# Altium schematic symbol library int_lock.SCHLIB: 64 symbols
Pins are listed as number, name and electrical type; pins without a type are passive.

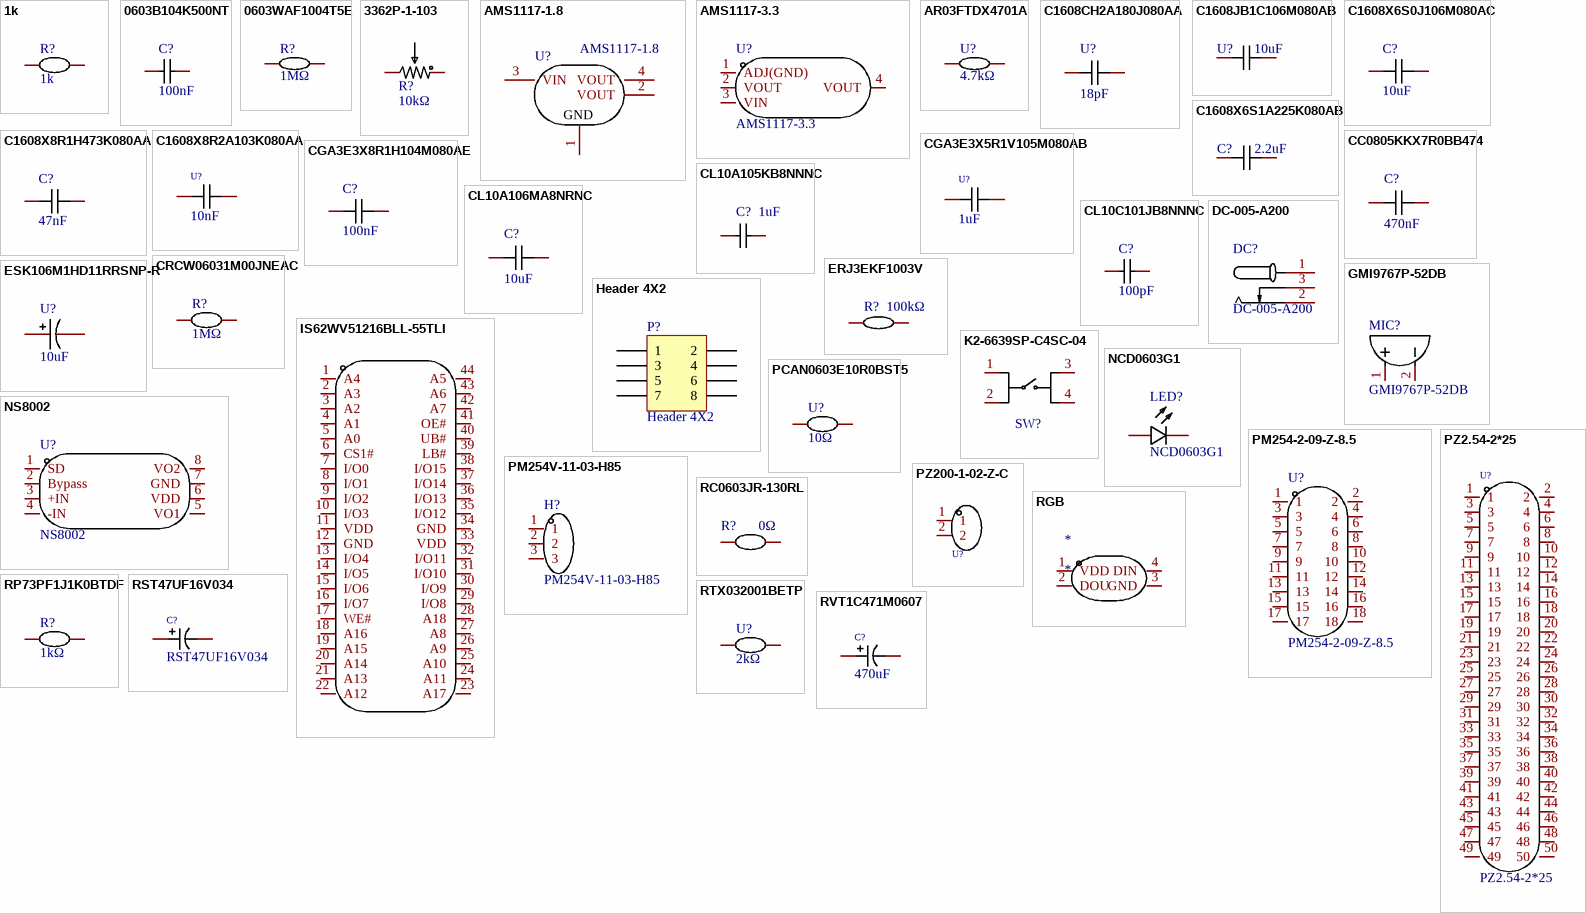
[diagram p0: symbols 1k to RVT1C471M0607]

## 1k
designator R?
Add into BOM: yes; Symbol: 1K; Device: 1k; LCSC Part Name: 1k; Supplier Part: C9900012840; Manufacturer Part: 1k; Supplier Footprint: R0603; JLCPCB Part Class: 扩展库; Supplier: LCSC; Convert to PCB: yes; Name: 1k
footprint R0603
3D model R0603
pins: 1, 2

## 0603B104K500NT
designator C?, comment 100nF
容值:100nF;精度:±10%;额定电压:50V;材质(温度系数):X7R;; Manufacturer: FH(风华); Symbol: 0603B104K500NT; Add into BOM: yes; Tolerance: ±10%; Voltage Rated: 50V; Temperature Coefficient: X7R; Name: 100nF; Device: 0603B104K500NT; LCSC Part Name: 100nF ±10% 50V; Supplier Part: C30926; Manufacturer Part: 0603B104K500NT; Supplier Footprint: 0603; JLCPCB Part Class: 扩展库; Datasheet: https://atta.szlcsc.com/upload/public/pdf/source/20170923/C30926_1506149436298988724.pdf; Supplier: LCSC; Convert to PCB: yes; Value: 100nF
footprint C0603
3D model C0603_L1.6-W0.8-H0.8
pins: 1, 2

## 0603WAF1004T5E
designator R?, comment 1MΩ
电阻类型:厚膜电阻;阻值:1MΩ;精度:±1%;功率:100mW;温度系数:±100ppm/℃;; Manufacturer: UNI-ROYAL(厚声); Symbol: 0603WAF1004T5E; Add into BOM: yes; Tolerance: ±1%; Power(Watts): 100mW; Overload Voltage (Max): 75V; Name: 1MΩ; Device: 0603WAF1004T5E; LCSC Part Name: 厚膜电阻 1MΩ ±1% 100mW; Supplier Part: C22935; Manufacturer Part: 0603WAF1004T5E; Supplier Footprint: 0603; JLCPCB Part Class: 基础库; Datasheet: https://atta.szlcsc.com/upload/public/pdf/source/20200306/C422600_1E6D84923E4A46A82E41ADD87F860B5C.pdf; Supplier: LCSC; Convert to PCB: yes; Type: 厚膜电阻; Value: 1MΩ; Temperature Coefficient: ±100ppm/℃; Operating Temperature Range: -55℃~+155℃
footprint R0603
3D model R0603
pins: 1, 2

## 3362P-1-103
designator R?, comment 10kΩ
阻值:10kΩ;精度:±10%;; Manufacturer: BOCHEN(博晨); Symbol: 3362P-1-103_C118956; Device: 3362P-1-103; Add into BOM: yes; Tolerance: ±10%; Name: 10kΩ; LCSC Part Name: 10kΩ ±10%; Supplier Part: C118956; Manufacturer Part: 3362P-1-103; Supplier Footprint: 插件; JLCPCB Part Class: 扩展库; Datasheet: https://atta.szlcsc.com/upload/public/pdf/source/20171114/C118956_15106326650691117445.pdf; Supplier: LCSC; Convert to PCB: yes; Value: 10kΩ
footprint RES-ADJ-TH_3362P
3D model 3362P
pins: 1, 2, 3

## AMS1117-1.8
designator U?
输出类型:固定;输出极性:正;最大输入电压:18V;输出电压:1.8V;输出电流:1A;电源纹波抑制比(PSRR):-;; Manufacturer: PUOLOP(迪浦); Symbol: AMS1117-1.8_C351432; Add into BOM: yes; Output Type: 固定; Output Polarity: 正; Number of Outputs: 1; Maximum Input Voltage: 18V; Output Voltage: 1.8V; Dropout Voltage: 1.4V@(1A); Output Current: 1A; Device: AMS1117-1.8; LCSC Part Name: 输入18V 输出1.8V 1A; Supplier Part: C351432; Manufacturer Part: AMS1117-1.8; Supplier Footprint: SOT-223-4; JLCPCB Part Class: 扩展库; Supplier: LCSC; Convert to PCB: yes; Power Supply Rejection Ratio (PSRR): -; Name: AMS1117-1.8
footprint SOT-223-4_L6.5-W3.5-P2.30-LS7.0-BR
3D model SOT-223-4P_L6.5-W3.5-H1.6-LS7.0-P2.30
pins: 1 GND, 2 VOUT, 3 VIN, 4 VOUT

## AMS1117-3.3
designator U?
输出类型:固定;输出极性:正;输出通道数:1;最大输入电压:18V;输出电压:3.3V;压差:1.3V@(1A);输出电流:1A;电源纹波抑制比(PSRR):60dB@(120Hz);工作温度:±150℃@(Tj);; Manufacturer: YONGYUTAI(永裕泰); Symbol: AMS1117-3.3_C2891839; Add into BOM: yes; Output Type: 固定; Output Polarity: 正; Number of Outputs: 1; Maximum Input Voltage: 18V; Output Voltage: 3.3V; Name: AMS1117-3.3; Device: AMS1117-3.3; LCSC Part Name: 正 Vin=18V Vout=3.3V 1A 60dB@(120Hz); Supplier Part: C2891839; Manufacturer Part: AMS1117-3.3; Supplier Footprint: SOT-223-3; JLCPCB Part Class: 扩展库; Datasheet: https://atta.szlcsc.com/upload/public/pdf/source/20210901/A75ADDE6A17DEE0002F2A58A8D1F3634.pdf; Supplier: LCSC; Convert to PCB: yes; Dropout Voltage: 1.3V@(1A); Output Current: 1A; Power Supply Rejection Ratio (PSRR): 60dB@(120Hz); Operating Temperature: ±150℃@(Tj)
footprint SOT-223-3_L6.5-W3.4-P2.30-LS7.0-BR
3D model SOT-223-4P_L6.5-W3.5-H1.6-LS7.0-P2.30
pins: 1 ADJ(GND), 2 VOUT, 3 VIN, 4 VOUT

## AR03FTDX4701A
designator U?, comment 4.7kΩ
电阻类型:薄膜电阻;阻值:4.7kΩ;精度:±1%;功率:100mW;; Manufacturer: Viking(光颉); Symbol: AR03FTDX4701A; Add into BOM: yes; Tolerance: ±1%; Power(Watts): 100mW; Temperature Coefficient: ±50ppm/℃; Overload Voltage (Max): 75V; Name: 4.7kΩ; Device: AR03FTDX4701A; LCSC Part Name: 4.7kΩ ±1% 100mW; Supplier Part: C2924150; Manufacturer Part: AR03FTDX4701A; Supplier Footprint: 0603; JLCPCB Part Class: 扩展库; Datasheet: https://atta.szlcsc.com/upload/public/pdf/source/20211123/7AFDB03DAF68AA91648A852AAE26A3AB.pdf; Supplier: LCSC; Convert to PCB: yes; Type: 薄膜电阻; Value: 4.7kΩ; Operating Temperature Range: -55℃~+155℃
footprint R0603
3D model R0603
pins: 1, 2

## C1608CH2A180J080AA
designator U?, comment 18pF
容值:18pF;精度:±5%;额定电压:100V;材质(温度系数):CH;; Manufacturer: TDK; Symbol: C1608CH2A180J080AA; Add into BOM: yes; Tolerance: ±5%; Voltage Rated: 100V; Temperature Coefficient: CH; Name: 18pF; Device: C1608CH2A180J080AA; LCSC Part Name: 18pF ±5% 100V; Supplier Part: C3847790; Manufacturer Part: C1608CH2A180J080AA; Supplier Footprint: -; JLCPCB Part Class: 扩展库; Supplier: LCSC; Convert to PCB: yes; Value: 18pF
footprint C0603
3D model C0603_L1.6-W0.8-H0.8
pins: 1, 2

## C1608JB1C106M080AB
designator U?, comment 10uF
容值:10uF;精度:±20%;额定电压:16V;材质(温度系数):JB;; Manufacturer: TDK; Symbol: C1608JB1C106M080AB; Add into BOM: yes; Tolerance: ±20%; Voltage Rated: 16V; Temperature Coefficient: JB; Name: 10uF; Device: C1608JB1C106M080AB; LCSC Part Name: 10uF ±20% 16V; Supplier Part: C3866185; Manufacturer Part: C1608JB1C106M080AB; Supplier Footprint: 0603; Supplier: LCSC; Convert to PCB: yes; Value: 10uF
footprint C0603
3D model C0603_L1.6-W0.8-H0.8
pins: 1, 2

## C1608X6S0J106M080AC
designator C?, comment 10uF
容值:10uF;精度:±20%;额定电压:6.3V;材质(温度系数):X6S;; Manufacturer: TDK; Symbol: C1608X6S0J106M080AC_C314596-1; Device: C1608X6S0J106M080AC; Add into BOM: yes; Tolerance: ±20%; Voltage Rated: 6.3V; Temperature Coefficient: X6S; Name: 10uF; LCSC Part Name: 10uF ±20% 6.3V; Supplier Part: C314596; Manufacturer Part: C1608X6S0J106M080AC; Supplier Footprint: 0603; Datasheet: https://atta.szlcsc.com/upload/public/pdf/source/20221212/519F8C46C56E78A46759B3245CB4AD37.pdf; Supplier: LCSC; Convert to PCB: yes; Value: 10uF
footprint C0603
3D model C0603_L1.6-W0.8-H0.8
pins: 1, 2

## C1608X6S1A225K080AB
designator C?, comment 2.2uF
容值:2.2uF;精度:±10%;额定电压:10V;材质(温度系数):X6S;; Manufacturer: TDK; Symbol: C1608X6S1A225K080AB; Add into BOM: yes; Tolerance: ±10%; Voltage Rated: 10V; Temperature Coefficient: X6S; Device: C1608X6S1A225K080AB; LCSC Part Name: 2.2uF ±10% 10V; Supplier Part: C3888161; Manufacturer Part: C1608X6S1A225K080AB; Supplier Footprint: 0603; Supplier: LCSC; Convert to PCB: yes; Value: 2.2uF; Name: 2.2uF
footprint C0603
3D model C0603_L1.6-W0.8-H0.8
pins: 1, 2

## C1608X8R1H473K080AA
designator C?, comment 47nF
容值:47nF;额定电压:50V;材质(温度系数):X8R;; Manufacturer: TDK; Symbol: C1608X8R1H473K080AA; Add into BOM: yes; Voltage Rated: 50V; Temperature Coefficient: X8R; Name: 47nF; Device: C1608X8R1H473K080AA; LCSC Part Name: 47nF 50V; Supplier Part: C3890694; Manufacturer Part: C1608X8R1H473K080AA; Supplier Footprint: 0603; Supplier: LCSC; Convert to PCB: yes; Value: 47nF
footprint C0603
3D model C0603_L1.6-W0.8-H0.8
pins: 1, 2

## C1608X8R2A103K080AA
designator U?, comment 10nF
容值:10nF;精度:±10%;额定电压:100V;材质(温度系数):X8R;; Manufacturer: TDK; Symbol: C1608X8R2A103K080AA; Add into BOM: yes; Tolerance: ±10%; Voltage Rated: 100V; Temperature Coefficient: X8R; Name: 10nF; Device: C1608X8R2A103K080AA; LCSC Part Name: 10nF ±10% 100V; Supplier Part: C3865495; Manufacturer Part: C1608X8R2A103K080AA; Supplier Footprint: 0603; Supplier: LCSC; Convert to PCB: yes; Value: 10nF
footprint C0603
3D model C0603_L1.6-W0.8-H0.8
pins: 1, 2

## CC0805KKX7R0BB474
designator C?, comment 470nF
容值:470nF;精度:±10%;额定电压:100V;材质(温度系数):X7R;; Manufacturer: YAGEO(国巨); Symbol: GRM21BR60E107ME15L; Device: CC0805KKX7R0BB474; Add into BOM: yes; Tolerance: ±10%; Voltage Rated: 100V; Temperature Coefficient: X7R; LCSC Part Name: 470nF ±10% 100V; Supplier Part: C596323; Manufacturer Part: CC0805KKX7R0BB474; Supplier Footprint: 0805; JLCPCB Part Class: Extended Part; Datasheet: https://atta.szlcsc.com/upload/public/pdf/source/20200609/C596323_82E7DD20666BC3809E26A1262184D295.pdf; Supplier: LCSC; Convert to PCB: yes; Value: 470nF; Name: 470nF
footprint C0805
3D model C0805_L2.0-W1.3-H1.3
pins: 1, 2

## CGA3E3X5R1V105M080AB
designator U?, comment 1uF
容值:1uF;精度:±20%;额定电压:35V;材质(温度系数):X5R;; Manufacturer: TDK; Symbol: CGA3E3X5R1V105M080AB; Add into BOM: yes; Tolerance: ±20%; Voltage Rated: 35V; Temperature Coefficient: X5R; Name: 1uF; Device: CGA3E3X5R1V105M080AB; LCSC Part Name: 1uF ±20% 35V; Supplier Part: C3910162; Manufacturer Part: CGA3E3X5R1V105M080AB; Supplier Footprint: 0603; Supplier: LCSC; Convert to PCB: yes; Value: 1uF
footprint C0603
3D model C0603_L1.6-W0.8-H0.8
pins: 1, 2

## CGA3E3X8R1H104M080AE
designator C?, comment 100nF
容值:100nF;精度:±20%;额定电压:50V;材质(温度系数):X8R;; Manufacturer: TDK; Symbol: CGA3E3X8R1H104M080AE; Add into BOM: yes; Tolerance: ±20%; Voltage Rated: 50V; Temperature Coefficient: X8R; Device: CGA3E3X8R1H104M080AE; LCSC Part Name: 100nF ±20% 50V; Supplier Part: C3855738; Manufacturer Part: CGA3E3X8R1H104M080AE; Supplier Footprint: 0603; Supplier: LCSC; Convert to PCB: yes; Value: 100nF; Name: 100nF
footprint C0603
3D model C0603_L1.6-W0.8-H0.8
pins: 1, 2

## CL10A105KB8NNNC
designator C?, comment 1uF
容值:1uF;精度:±10%;额定电压:50V;材质(温度系数):X5R;; Manufacturer: SAMSUNG(三星); Symbol: CL10A105KB8NNNC; Add into BOM: yes; Tolerance: ±10%; Voltage Rated: 50V; Temperature Coefficient: X5R; Name: 1uF; Device: CL10A105KB8NNNC; LCSC Part Name: 1uF ±10% 50V; Supplier Part: C15849; Manufacturer Part: CL10A105KB8NNNC; Supplier Footprint: 0603; JLCPCB Part Class: 基础库; Datasheet: https://atta.szlcsc.com/upload/public/pdf/source/20160103/1457707679084.pdf; Supplier: LCSC; Convert to PCB: yes; Value: 1uF
footprint C0603
3D model C0603_L1.6-W0.8-H0.8
pins: 1, 2

## CL10A106MA8NRNC
designator C?, comment 10uF
容值:10uF;精度:±20%;额定电压:25V;材质(温度系数):X5R;; Manufacturer: SAMSUNG(三星); Symbol: CL10A106MA8NRNC; Add into BOM: yes; Tolerance: ±20%; Voltage Rated: 25V; Temperature Coefficient: X5R; Name: 10uF; Device: CL10A106MA8NRNC; LCSC Part Name: 10uF ±20% 25V; Supplier Part: C96446; Manufacturer Part: CL10A106MA8NRNC; Supplier Footprint: 0603; JLCPCB Part Class: 基础库; Datasheet: https://atta.szlcsc.com/upload/public/pdf/source/20170325/1490427913016.pdf; Supplier: LCSC; Convert to PCB: yes; Value: 10uF
footprint C0603
3D model C0603_L1.6-W0.8-H0.8
pins: 1, 2

## CL10C101JB8NNNC
designator C?, comment 100pF
容值:100pF;精度:±5%;额定电压:50V;材质(温度系数):C0G;; Manufacturer: SAMSUNG(三星); Symbol: CL10C101JB8NNNC; Add into BOM: yes; Tolerance: ±5%; Voltage Rated: 50V; Temperature Coefficient: C0G; Name: 100pF; Device: CL10C101JB8NNNC; LCSC Part Name: 100pF ±5% 50V; Supplier Part: C14858; Manufacturer Part: CL10C101JB8NNNC; Supplier Footprint: 0603; JLCPCB Part Class: 基础库; Datasheet: https://atta.szlcsc.com/upload/public/pdf/source/20160103/1457707672333.pdf; Supplier: LCSC; Convert to PCB: yes; Value: 100pF
footprint C0603
3D model C0603_L1.6-W0.8-H0.8
pins: 1, 2

## CRCW06031M00JNEAC
designator R?, comment 1MΩ
电阻类型:厚膜电阻;阻值:1MΩ;精度:±5%;功率:100mW;; Manufacturer: VISHAY(威世); Symbol: CRCW06031M00JNEAC; Add into BOM: yes; Tolerance: ±5%; Power(Watts): 100mW; Temperature Coefficient: ±200ppm/℃; Overload Voltage (Max): 75V; Name: 1MΩ; Device: CRCW06031M00JNEAC; LCSC Part Name: 1MΩ ±5% 100mW; Supplier Part: C1511824; Manufacturer Part: CRCW06031M00JNEAC; Supplier Footprint: 0603; JLCPCB Part Class: 扩展库; Datasheet: https://atta.szlcsc.com/upload/public/pdf/source/20210501/3A8C68602BA6317D7357138250FC3EA2.pdf; Supplier: LCSC; Convert to PCB: yes; Type: 厚膜电阻; Value: 1MΩ; Operating Temperature Range: -55℃~+155℃
footprint R0603
3D model R0603
pins: 1, 2

## DC-005-A200
designator DC?
DC-005 外径6.4 内芯2.0 3A电流 DC电源插座; Manufacturer: XUNPU(讯普); Add into BOM: yes; Name: DC-005-A200; Symbol: DC-005-A200; Device: DC-005-A200; LCSC Part Name: DC-005-A200; Supplier Part: C720557; Manufacturer Part: DC-005-A200; Supplier Footprint: 14×9.0×11.0mm; JLCPCB Part Class: 扩展库; Datasheet: https://atta.szlcsc.com/upload/public/pdf/source/20200812/C720557_2286DFCD6C75B71AF905731F627ABF3A.pdf; Supplier: LCSC; Convert to PCB: yes
footprint DC-IN-TH_DC-005-A200
3D model DC-IN-TH_DC-005
pins: 1, 2, 3

## ERJ3EKF1003V
designator R?, comment 100kΩ
电阻类型:厚膜电阻;阻值:100kΩ;精度:±1%;功率:100mW;温度系数:±100ppm/℃;; Manufacturer: PANASONIC(松下); Symbol: ERJ3EKF1003V; Add into BOM: yes; Tolerance: ±1%; Power(Watts): 100mW; Name: 100kΩ; Device: ERJ3EKF1003V; LCSC Part Name: 厚膜电阻 100kΩ ±1% 100mW; Supplier Part: C189597; Manufacturer Part: ERJ3EKF1003V; Supplier Footprint: 0603; JLCPCB Part Class: 扩展库; Datasheet: https://atta.szlcsc.com/upload/public/pdf/source/20180524/C193239_FFEA89BB7F9859C8C42240F47AD03C60.pdf; Supplier: LCSC; Convert to PCB: yes; Type: 厚膜电阻; Value: 100kΩ; Temperature Coefficient: ±100ppm/℃; Overload Voltage (Max): -; Operating Temperature Range: -55℃~+155℃
footprint R0603
3D model R0603
pins: 1, 2

## ESK106M1HD11RRSNP-R
designator U?, comment 10uF
容值:10uF;精度:±20%;额定电压:50V;纹波电流:-;等效串联电阻:-;; Manufacturer: MAN YUE(万裕科技); Symbol: ESK106M1HD11RRSNP-R; Add into BOM: yes; Tolerance: ±20%; Rated Voltage: 50V; φD: 5mm; L: 11mm; Name: 10uF; Device: ESK106M1HD11RRSNP-R; LCSC Part Name: 10uF ±20% 50V; Supplier Part: C3015490; Manufacturer Part: ESK106M1HD11RRSNP-R; Supplier Footprint: 插件; JLCPCB Part Class: 扩展库; Datasheet: https://atta.szlcsc.com/upload/public/pdf/source/20190724/C406799_CDF11B2185D3B9C175922EABD678815E.pdf; Supplier: LCSC; Convert to PCB: yes; Value: 10uF; Lead Spacing: -; Ripple Current: -; Equivalent Series Resistance(ESR): -; Lifetime @ Temp: -; Operating Temperature: -
footprint CAP-TH_BD6.3-P2.50-D0.5-FD
3D model CAP-TH_BD6.3-P2.50-D0.5-FD
pins: 1, 2

## GMI9767P-52DB
designator MIC?
Manufacturer: INGHAi(赢海); Add into BOM: yes; Name: GMI9767P-52DB; Symbol: GMI9767P-52DB; Device: GMI9767P-52DB; LCSC Part Name: 全指向φ9.7*6.7mm 1.5V-10V 灵敏度-52db 低阻抗 针脚; Supplier Part: C234023; Manufacturer Part: GMI9767P-52DB; Supplier Footprint: 插件; JLCPCB Part Class: 扩展库; Datasheet: https://atta.szlcsc.com/upload/public/pdf/source/20200113/C234023_1CE1EA91B70FB2D654251C10F12F6FAC.pdf; Supplier: LCSC; Convert to PCB: yes
footprint MIC-TH_BD9.7-P2.54-D0.8-L-FD
3D model MIC-TH_BD9.7-P2.54-D0.8-L-FD
pins: 1, 2

## Header 4X2
designator P?
Header, 4-Pin, Dual row; LatestRevisionDate: 17-Jul-2002; LatestRevisionNote: Re-released for DXP Platform.; Publisher: Altium Limited
footprint HDR2X4 (Connector; Header; 4x2 Position)
signal-integrity model Connector
pins: 1, 2, 3, 4, 5, 6, 7, 8

## IS62WV51216BLL-55TLI
designator U??  (value not drawn)
Manufacturer: ISSI(美国芯成); Add into BOM: yes; Symbol: IS62WV51216BLL-55TLI; Device: IS62WV51216BLL-55TLI; Supplier: LCSC; Manufacturer Part: IS62WV51216BLL-55TLI; Supplier Part: C11315; JLCPCB Part Class: Extended Part; LCSC Part Name: IS62WV51216BLL-55TLI; Supplier Footprint: TSOPII-44; Datasheet: https://atta.szlcsc.com/upload/public/pdf/source/20130225/1457706593006.pdf; Convert to PCB: yes
footprint TSOP-44_L18.4-W10.2-P0.80-LS11.8-BL
pins: 1 A4, 2 A3, 3 A2, 4 A1, 5 A0, 6 CS1#, 7 I/O0, 8 I/O1, 9 I/O2, 10 I/O3, 11 VDD, 12 GND, 13 I/O4, 14 I/O5, 15 I/O6, 16 I/O7, 17 WE#, 18 A16, 19 A15, 20 A14, 21 A13, 22 A12, 23 A17, 24 A11, 25 A10, 26 A9, 27 A8, 28 A18, 29 I/O8, 30 I/O9, 31 I/O10, 32 I/O11, 33 VDD, 34 GND, 35 I/O12, 36 I/O13, 37 I/O14, 38 I/O15, 39 LB#, 40 UB#, 41 OE#, 42 A7, 43 A6, 44 A5

## K2-6639SP-C4SC-04
designator SW?  (value not drawn)
触点电流:50mA;额定电压(DC):12V;绝缘电阻:100MΩ;安装方式:立贴;作用力:250gf@±30gf;机械寿命:1000000;工作温度:-25℃~+85℃;开关长度:6mm;开关宽度:6mm;开关高度:5mm;; Manufacturer: 韩国韩荣; Symbol: K2-6639SP-C4SC-04_C879344; Add into BOM: yes; Contact Current: 50mA; Voltage Rating (DC): 12V; Insulation Resistance: 100MΩ; Mounting Sytle: 立贴; Switch Length: 6mm; Switch Height: 5mm; Name: K2-6639SP-C4SC-04; Device: K2-6639SP-C4SC-04; LCSC Part Name: K2-6639SP-C4SC-04; Supplier Part: C879344; Manufacturer Part: K2-6639SP-C4SC-04; Supplier Footprint: SMD; JLCPCB Part Class: 扩展库; Datasheet: https://atta.szlcsc.com/upload/public/pdf/source/20200721/C707344_FB3B602593668C8FE1542A3F64DDEE0A.pdf; Supplier: LCSC; Convert to PCB: yes; Operating Force: 250gf@±30gf; Mechanical Life: 1000000; Operating Temperature: -25℃~+85℃; Switch Width: 6mm
footprint KEY-SMD_4P-L6.0-W6.0-P3.90-LS10.0
3D model KEY-SMD_4P-L6.0-W6.0-H9.0-LS10.0-P3.9
pins: 1, 2, 3, 4

## NCD0603G1
designator LED?
发光颜色:翠绿色;功率:72mW;透镜颜色:无色透明;主波长:515nm~530nm;发光强度:330mcd~900mcd;发光角度:130°;工作温度:-30℃~+85℃;; Manufacturer: 国星光电; Symbol: FC-D1608UGK-520D10; Add into BOM: yes; Emitted Color: 翠绿色; Forward Voltage (VF): 2.6V~3.6V; Forward Current: 10mA; Power Dissipation: 72mW; Lens Color: 无色透明; Viewing Angle: 130°; Name: NCD0603G1; Device: NCD0603G1; LCSC Part Name: 翠绿 0603翠绿  正贴; Supplier Part: C84267; Manufacturer Part: NCD0603G1; Supplier Footprint: 0603; JLCPCB Part Class: 扩展库; Datasheet: https://atta.szlcsc.com/upload/public/pdf/source/20200820/C84267_04BA7703640BAC111D09F5EFB971FBF3.pdf; Supplier: LCSC; Convert to PCB: yes; Dominant Wavelength: 515nm~530nm; Luminous Intensity: 330mcd~900mcd; Operating Temperature: -30℃~+85℃
footprint LED0603-RD
3D model LED0603-RD
pins: 1 K, 2 A

## NS8002
designator U?
音频功率放大器的类型:Class AB;输出类型:-;输出功率:1.8W x 1 @ 4Ω;工作电压:3V ~ 5.25V;; Manufacturer: Nsiway(纳芯威); Add into BOM: yes; Name: NS8002; Symbol: NS8002; Device: NS8002; LCSC Part Name: NS8002; Supplier Part: C189960; Manufacturer Part: NS8002; Supplier Footprint: SOP-8-EP-150mil; JLCPCB Part Class: 扩展库; Datasheet: https://atta.szlcsc.com/upload/public/pdf/source/20190704/C189960_42E000A0092060C3B2B5B31BC13BD104.pdf; Supplier: LCSC; Convert to PCB: yes; Type: Class AB; Output Type: -; Max Output Power x Channels @ Load: 1.8W x 1 @ 4Ω; Voltage - Supply: 3V ~ 5.25V; Features: 关机
footprint SOP-8_L4.9-W3.9-P1.27-LS6.0-BL
3D model SOP-8_L4.9-W3.9-P1.27-LS6.0-BL-1
pins: 1 SD, 2 Bypass, 3 +IN, 4 -IN, 5 VO1, 6 VDD, 7 GND, 8 VO2

## PCAN0603E10R0BST5
designator U?, comment 10Ω
电阻类型:薄膜电阻;阻值:10Ω;精度:±0.1%;功率:500mW;; Manufacturer: VISHAY(威世); Symbol: PCAN0603E10R0BST5; Add into BOM: yes; Tolerance: ±0.1%; Power(Watts): 500mW; Temperature Coefficient: ±25ppm/℃; Overload Voltage (Max): 75V; Name: 10Ω; Device: PCAN0603E10R0BST5; LCSC Part Name: 10Ω ±0.1% 500mW; Supplier Part: C2091258; Manufacturer Part: PCAN0603E10R0BST5; Supplier Footprint: 0603; JLCPCB Part Class: 扩展库; Datasheet: https://atta.szlcsc.com/upload/public/pdf/source/20210606/BB102AFC1F3ADA31AF003395293DA88D.pdf; Supplier: LCSC; Convert to PCB: yes; Type: 薄膜电阻; Value: 10Ω; Operating Temperature Range: -55℃~+155℃
footprint R0603
3D model R0603
pins: 1, 2

## PM254-2-09-Z-8.5
designator U?
排数:双排;总孔位数:18P;间距:2.54mm;插孔结构:2x9P;行距:2.54mm;安装类型:直插;圆孔/方孔:方孔;额定电流:3A;额定电压:-;插孔方向:顶部;塑高:8.5mm;工作温度范围:-40℃~+105℃;; Manufacturer: HCTL(华灿天禄); Add into BOM: yes; Number of Holes: 18P; Pitch: 2.54mm; Holes Structure: 2x9P; Circular Hole / Square Hole: 方孔; Current Rating (Max): 3A; Holes Direction: 顶部; Name: PM254-2-09-Z-8.5; Symbol: PM254-2-09-Z-8.5; Device: PM254-2-09-Z-8.5; LCSC Part Name: 间距:2.54mm 2x9P 直插; Supplier Part: C2897410; Manufacturer Part: PM254-2-09-Z-8.5; Supplier Footprint: 插件,P=2.54mm; JLCPCB Part Class: 扩展库; Datasheet: https://atta.szlcsc.com/upload/public/pdf/source/20230609/3D36CA2C1BFC9FD1C3F709AD9DFEB9C2.pdf; Supplier: LCSC; Convert to PCB: yes; Number of Rows: 双排; Row Spacing: 2.54mm; Mounting Type: 直插; Voltage Rating (Max): -; Insulation Height: 8.5mm; Operating Temperature Range: -40℃~+105℃
footprint HDR-TH_18P-P2.54-V-F-R2-C9-S2.54
3D model HDR-TH_18P-P2.54-F-LI-2X9P
pins: 1, 2, 3, 4, 5, 6, 7, 8, 9, 10, 11, 12, 13, 14, 15, 16, 17, 18

## PM254V-11-03-H85
designator H?
排数:单排;总孔位数:3P;间距:2.54mm;插孔结构:1x3P;行距:-;安装类型:直插;塑高:-;触头材质:黄铜;触头镀层:-;; Manufacturer: XFCN(兴飞); Add into BOM: yes; Number of Holes: 3P; Pitch: 2.54mm; Holes Structure: 1x3P; Name: PM254V-11-03-H85; Symbol: PM254V-11-03-H85; Device: PM254V-11-03-H85; LCSC Part Name: 间距:2.54mm 1x3P 直插; Supplier Part: C541850; Manufacturer Part: PM254V-11-03-H85; Supplier Footprint: 插件,P=2.54mm; JLCPCB Part Class: 扩展库; Datasheet: https://atta.szlcsc.com/upload/public/pdf/source/20200518/C541849_85853D71FC67C51915A806977A588FDA.pdf; Supplier: LCSC; Convert to PCB: yes; Number of Rows: 单排; Row Spacing: -; Mounting Type: 直插; Insulation Height: -; Contact Material: 黄铜; Contact Plating: -
footprint HDR-TH_3P-P2.54-V-F
3D model HDR2.54-F-LI-1X3P
pins: 1, 2, 3

## PZ2.54-2*25
designator U?
Manufacturer: ZHOURI(洲日); Add into BOM: yes; Name: PZ2.54-2*25; Symbol: PZ2.54-2*25; Device: PZ2.54-2*25; LCSC Part Name: 排针 2*25 2.54 11.6MM 镀金; Supplier Part: C5360897; Manufacturer Part: PZ2.54-2*25; Supplier Footprint: DIP; JLCPCB Part Class: 扩展库; Supplier: LCSC; Convert to PCB: yes
footprint HDR-TH_50P-P2.54-V-M-R2-C25-S2.54
3D model HDR-TH_50P-P2.54-M-LI-2X25P
pins: 1, 2, 3, 4, 5, 6, 7, 8, 9, 10, 11, 12, 13, 14, 15, 16, 17, 18, 19, 20, 21, 22, 23, 24, 25, 26, 27, 28, 29, 30, 31, 32, 33, 34, 35, 36, 37, 38, 39, 40, 41, 42, 43, 44, 45, 46, 47, 48, 49, 50

## PZ200-1-02-Z-C
designator U?  (value not drawn)
间距：2.0mm 总PIN位数：2 排数1行距：2.0mm 安类型：直插 圆针：圆针 额定电流：3A 配合针长度：3.7mm 塑高：3mm 端接针长度：3.7mm 触头材质：黄铜 触头镀层：金 工作温度范围：-40℃~+105℃ 焊接温度(最大值)：260℃ 颜色：黑; Manufacturer: HCTL(华灿天禄); Add into BOM: yes; Name: PZ200-1-02-Z-C; Symbol: PZ200-1-02-Z-C; Device: PZ200-1-02-Z-C; LCSC Part Name: PZ200-1-02-Z-C; Supplier Part: C5159793; Manufacturer Part: PZ200-1-02-Z-C; Supplier Footprint: 插件,P=2mm; JLCPCB Part Class: 扩展库; Datasheet: https://atta.szlcsc.com/upload/public/pdf/source/20230609/CA4823EE069156B840028BF818EA617F.pdf; Supplier: LCSC; Convert to PCB: yes
footprint HDR-TH_2P-P2.00-V-M-3
3D model HDR-TH_2P-P2.00-V-M-3
pins: 1, 2

## RC0603JR-130RL
designator R?, comment 0Ω
电阻类型:厚膜电阻;阻值:0Ω;精度:-;功率:100mW;; Manufacturer: YAGEO(国巨); Symbol: RC0603JR-130RL; Add into BOM: yes; Power(Watts): 100mW; Overload Voltage (Max): 75V; Name: 0Ω; Device: RC0603JR-130RL; LCSC Part Name: 0Ω 100mW; Supplier Part: C1512169; Manufacturer Part: RC0603JR-130RL; Supplier Footprint: 0603; JLCPCB Part Class: 扩展库; Datasheet: https://atta.szlcsc.com/upload/public/pdf/source/20210615/C1512169_F749B83676031E9170C7C93785487C19.pdf; Supplier: LCSC; Convert to PCB: yes; Type: 厚膜电阻; Value: 0Ω; Tolerance: -; Temperature Coefficient: -; Operating Temperature Range: -55℃~+155℃
footprint R0603
3D model R0603
pins: 1, 2

## RGB
designator *
pins: 1 VDD, 2 DOU, 3 GND, 4 DIN

## RP73PF1J1K0BTDF
designator R?, comment 1kΩ
电阻类型:薄膜电阻;阻值:1kΩ;功率:166.667mW;温度系数:±25ppm/℃;精度:±0.1%;; Manufacturer: TE Connectivity(泰科电子); Symbol: RP73PF1J1K0BTDF; Add into BOM: yes; Overload Voltage (Max): 100V; Tolerance: ±0.1%; Name: 1kΩ; Device: RP73PF1J1K0BTDF; LCSC Part Name: 薄膜电阻 1kΩ ±0.1% 166.667mW; Supplier Part: C2075496; Manufacturer Part: RP73PF1J1K0BTDF; Supplier Footprint: 0603; JLCPCB Part Class: 扩展库; Datasheet: https://atta.szlcsc.com/upload/public/pdf/source/20210630/6E04CB751A2D662D7173C35DE81A345D.pdf; Supplier: LCSC; Convert to PCB: yes; Type: 薄膜电阻; Value: 1kΩ; Power(Watts): 166.667mW; Temperature Coefficient: ±25ppm/℃; Operating Temperature Range: -55℃~+155℃
footprint R0603
3D model R0603
pins: 1, 2

## RST47UF16V034
designator C?
RST宽温通用品 105℃2000小时 等同RVT VT XT系列贴片电解电容; Manufacturer: KNSCHA(科尼盛); Add into BOM: yes; Capacitance: 47uF; Name: RST47UF16V034; Symbol: RST47UF16V034; Device: RST47UF16V034; LCSC Part Name: 贴片型铝电解电容 47uF ±20% 16V; Supplier Part: C4747957; Manufacturer Part: RST47UF16V034; Supplier Footprint: SMD,5x5.4mm; JLCPCB Part Class: 扩展库; Supplier: LCSC; Convert to PCB: yes
footprint CAP-SMD_BD5.0-L5.3-W5.3-LS6.0-FD
3D model CAP-SMD_BD5.0-L5.3-W5.3-LS6.0-FD
pins: 1, 2

## RTX032001BETP
designator U?, comment 2kΩ
阻值:2kΩ;精度:±0.1%;; Manufacturer: RALEC(旺诠); Symbol: RTX032001BETP; Add into BOM: yes; Tolerance: ±0.1%; Temperature Coefficient: ±50ppm/℃; Name: 2kΩ; Device: RTX032001BETP; LCSC Part Name: 2kΩ ±0.1%; Supplier Part: C5141181; Manufacturer Part: RTX032001BETP; Supplier Footprint: 0603; Datasheet: https://atta.szlcsc.com/upload/public/pdf/source/20220822/046AFDAF81466BFF443BF7BC902F6DB1.pdf; Supplier: LCSC; Convert to PCB: yes; Value: 2kΩ
footprint R0603
3D model R0603
pins: 1, 2

## RVT1C471M0607
designator C?, comment 470uF
容值:470uF;精度:±20%;额定电压:16V;电容体直径:6.3mm;电容体长度:7.7mm;工作寿命:2000hrs@105℃;工作温度:-55℃~+105℃;; Manufacturer: ROQANG(容强); Symbol: RVT1C471M0607; Add into BOM: yes; Tolerance: ±20%; Rated Voltage: 16V; φD: 6.3mm; L: 7.7mm; Name: 470uF; Device: RVT1C471M0607; LCSC Part Name: 470uF ±20% 16V; Supplier Part: C2977552; Manufacturer Part: RVT1C471M0607; Supplier Footprint: SMD,6.3x7.7mm; JLCPCB Part Class: 扩展库; Supplier: LCSC; Convert to PCB: yes; Value: 470uF; Lifetime @ Temp: 2000hrs@105℃; Operating Temperature: -55℃~+105℃
footprint CAP-SMD_BD6.3-L6.6-W6.6-LS7.6-RD
3D model CAP-SMD_BD6.3-L6.6-W6.6-LS7.6-RD
pins: 1, 2

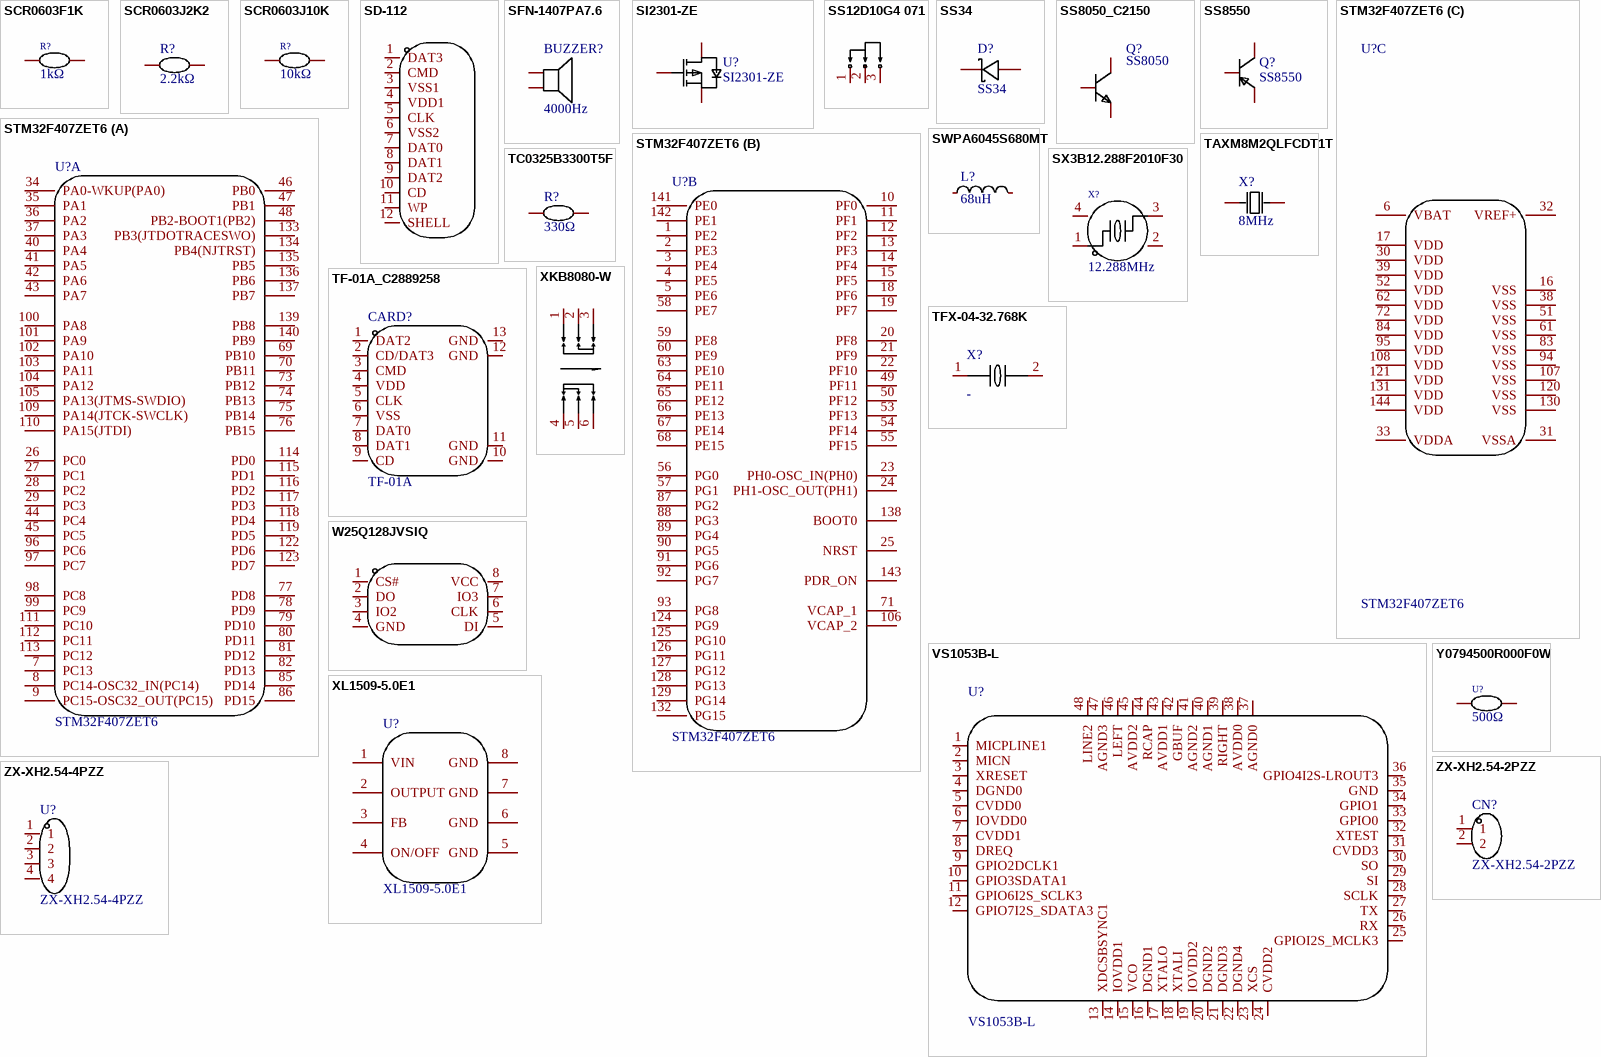
[diagram p1: symbols SCR0603F1K to ZX-XH2.54-4PZZ]

## SCR0603F1K
designator R?, comment 1kΩ
阻值:1kΩ;精度:±1%;; Manufacturer: VO(翔胜); Symbol: SCR0603F1K; Add into BOM: yes; Tolerance: ±1%; Name: 1kΩ; Device: SCR0603F1K; LCSC Part Name: 1kΩ ±1%; Supplier Part: C3016283; Manufacturer Part: SCR0603F1K; Supplier Footprint: 0603; JLCPCB Part Class: 扩展库; Datasheet: https://atta.szlcsc.com/upload/public/pdf/source/20220513/247AF9639BA21CF93567DC289CCC6A22.pdf; Supplier: LCSC; Convert to PCB: yes; Value: 1kΩ
footprint R0603
3D model R0603
pins: 1, 2

## SCR0603J2K2
designator R?, comment 2.2kΩ
阻值:2.2kΩ;精度:±5%;; Manufacturer: VO(翔胜); Symbol: SCR0603J2K2; Add into BOM: yes; Tolerance: ±5%; Name: 2.2kΩ; Device: SCR0603J2K2; LCSC Part Name: 2.2kΩ ±5%; Supplier Part: C3017730; Manufacturer Part: SCR0603J2K2; Supplier Footprint: 0603; JLCPCB Part Class: 扩展库; Datasheet: https://atta.szlcsc.com/upload/public/pdf/source/20220513/247AF9639BA21CF93567DC289CCC6A22.pdf; Supplier: LCSC; Convert to PCB: yes; Value: 2.2kΩ
footprint R0603
3D model R0603
pins: 1, 2

## SCR0603J10K
designator R?, comment 10kΩ
阻值:10kΩ;精度:±5%;; Manufacturer: VO(翔胜); Symbol: SCR0603J10K; Add into BOM: yes; Tolerance: ±5%; Name: 10kΩ; Device: SCR0603J10K; LCSC Part Name: 10kΩ ±5%; Supplier Part: C3017715; Manufacturer Part: SCR0603J10K; Supplier Footprint: 0603; JLCPCB Part Class: 扩展库; Datasheet: https://atta.szlcsc.com/upload/public/pdf/source/20220513/247AF9639BA21CF93567DC289CCC6A22.pdf; Supplier: LCSC; Convert to PCB: yes; Value: 10kΩ
footprint R0603
3D model R0603
pins: 1, 2

## SD-112
designator SD??  (value not drawn)
Manufacturer: HANBO(汉博); Add into BOM: yes; Card Connection Mode: 拔插式; Card Type: 标准SD卡; Connector Type: 卡座; Maximum Body Height: 2.75mm; Symbol: SD-112; Device: SD-112; Supplier: LCSC; Supplier Part: C961673; Manufacturer Part: SD-112; JLCPCB Part Class: Extended Part; LCSC Part Name: 拔插式 标准SD卡 卡座; Supplier Footprint: SMD; Datasheet: https://atta.szlcsc.com/upload/public/pdf/source/20221111/3DA5FA45280C889584A9D758FC9BB3ED.pdf; Convert to PCB: yes; Contact Plating: 镀金; Operating Temperature Range: -25℃~+90℃
footprint SD-SMD_SD-112
pins: 1 DAT3, 2 CMD, 3 VSS1, 4 VDD1, 5 CLK, 6 VSS2, 7 DAT0, 8 DAT1, 9 DAT2, 10 CD, 11 WP, 12 SHELL

## SFN-1407PA7.6
designator BUZZER?, comment 4000Hz
驱动方式:无源(外部驱动);构造类型:压电式;额定电压:-;工作电压:-;消耗电流:-;频率:4000Hz;声压(SPL):85dB@5V,10cm;直径(φD):14mm;长度:-;宽度:-;高度:7.5mm;工作温度:-;; Manufacturer: S&amp;S(海旭); Symbol: SFN-1407PA7.6; Add into BOM: yes; Technology Type: 压电式; Name: 4000Hz; Device: SFN-1407PA7.6; LCSC Part Name: 压电无源蜂鸣器; Supplier Part: C360603; Manufacturer Part: SFN-1407PA7.6; Supplier Footprint: 插件,P=7.6mm; JLCPCB Part Class: 扩展库; Datasheet: https://atta.szlcsc.com/upload/public/pdf/source/20190422/C360603_0050A9658ADA60D80C9948846F925782.pdf; Supplier: LCSC; Convert to PCB: yes; Oscillator Circuit: 无源(外部驱动); Rated Voltage: -; Operating Voltage: -; Current Consumption: -; Value: 4000Hz; Sound Pressure Level (SPL): 85dB@5V,10cm; Diameter (φD): 14mm; Length: -; Width: -; Height: 7.5mm; Operating Temperature: -
footprint BUZ-TH_BD14.0-P7.60-D0.7-FD
3D model BUZ-TH_D14.0-H1.0-P7.6
pins: 1, 2

## SI2301-ZE
designator U?
漏源电压(Vdss):20V;连续漏极电流(Id):2.3A;功率(Pd):700mW;类型:P沟道;导通电阻(RDS(on)@Vgs,Id):126mΩ@4.5V;; Manufacturer: HXY MOSFET(华轩阳电子); Add into BOM: yes; Gate Threshold Voltage (Vgs(th)@Id): 1V@250uA; Drain Source Voltage (Vdss): 20V; Continuous Drain Current (Id): 2.3A; Power Dissipation (Pd): 700mW; Input Capacitance (Ciss@Vds): 285pF; Name: SI2301-ZE; Symbol: SI2301-ZE; Device: SI2301-ZE; LCSC Part Name: P沟道 耐压:20V 电流:2.3A; Supplier Part: C5261052; Manufacturer Part: SI2301-ZE; Supplier Footprint: SOT-23; JLCPCB Part Class: 扩展库; Datasheet: https://atta.szlcsc.com/upload/public/pdf/source/20230515/2FF2907841563ED329594D3237822724.pdf; Supplier: LCSC; Convert to PCB: yes; Type: P沟道; Drain Source On Resistance (RDS(on)@Vgs,Id): 126mΩ@4.5V
footprint SOT-23-3_L2.9-W1.3-P1.90-LS2.4-BR
3D model SOT-23-3P_L2.9-W1.3-H1.0-LS2.4-P0.95
pins: 1 G, 2 S, 3 D

## SS12D10G4 071
designator SW??  (value not drawn)
Manufacturer: SHOU HAN(首韩); Add into BOM: yes; Circuit: 单刀双掷; Pin Style: PC引脚; Switch Length: 12.7mm; Switch Width: 6.7mm; Switch Height: 6.4mm; Current Rating (DC): 2A; Voltage Rating (DC): 125V; Mechanical Life: 3千次; Symbol: SS12D10G4 071; Device: SS12D10G4 071; Supplier: LCSC; Supplier Part: C2887259; Manufacturer Part: SS12D10G4 071; JLCPCB Part Class: Extended Part; LCSC Part Name: SS12D10G4 071; Supplier Footprint: 插件; Datasheet: https://atta.szlcsc.com/upload/public/pdf/source/20210820/80D1704BBF3FCEE0435FCAA54C61E0A3.pdf; Convert to PCB: yes; Actuator Style: -; Mounting Style: 立插; Actuator Color: -; Current Rating (AC): -; Voltage Rating (AC): -; Operating Temperature: -16℃~+60℃
footprint SW-TH_SHOU-HAN_SS12D10G4
pins: 1, 2, 3

## SS34
designator D?
Symbol: SS34_C9900023345; Add into BOM: yes; Name: SS34; Device: SS34; LCSC Part Name: SS34; Supplier Part: C9900023345; Manufacturer Part: SS34; Supplier Footprint: SMA,DO-214AC; JLCPCB Part Class: 扩展库; Datasheet: 2022-07-04/534833A/5ff3008f79ea4c6ab22b1f3463cee262/20210714020425519.pdf; Supplier: LCSC; Convert to PCB: yes
footprint SMA_L4.3-W2.6-LS5.0-RD
3D model SMA_L4.3-W2.6-LS5.0-RD
pins: 1 K, 2 A

## SS8050_C2150
designator Q?, comment SS8050
直流电流增益(hFE@Ic,Vce):200@100mA,1V;功率(Pd):300mW;集射极击穿电压(Vceo):25V;集电极电流(Ic):1.5A;晶体管类型:NPN;; Manufacturer: CJ(江苏长电/长晶); Symbol: SS8050_C2150; Add into BOM: yes; Power Dissipation (Pd): 300mW; Transition Frequency (fT): 100MHz; Collector-Emitter Breakdown Voltage (Vceo): 25V; Collector Current (Ic): 1.5A; Collector Cut-Off Current (Icbo): 100nA; Collector-Emitter Saturation Voltage (VCE(sat)@Ic,Ib): 500mV@800mA,80mA; Transistor Type: NPN; Name: SS8050; Device: SS8050_C2150; LCSC Part Name: 耐压:25V 电流:1.5A NPN Y1 200-350; Supplier Part: C2150; Manufacturer Part: SS8050; Supplier Footprint: SOT-23; JLCPCB Part Class: 基础库; Datasheet: https://atta.szlcsc.com/upload/public/pdf/source/20230322/AEE86F4B043774EFF80CAEA14A37D9E9.pdf; Supplier: LCSC; Convert to PCB: yes; DC Current Gain (hFE@Ic,Vce): 200@100mA,1V; Operating Temperature: +150℃@(Tj)
footprint SOT-23-3_L2.9-W1.3-P1.90-LS2.4-BR
3D model SOT-23-3P_L2.9-W1.3-H1.0-LS2.4-P0.95
pins: 1 B, 2 E, 3 C

## SS8550
designator Q?
Manufacturer: Doeshare(德芯); Symbol: SS8550_C2931718; Add into BOM: yes; Name: SS8550; Device: SS8550; LCSC Part Name: PNP -25V -1.5A 120-400 SOT-23; Supplier Part: C2931718; Manufacturer Part: SS8550; Supplier Footprint: SOT-23; JLCPCB Part Class: 扩展库; Datasheet: https://atta.szlcsc.com/upload/public/pdf/source/20220104/E36293975455CDB0A899354BE4C8E85F.pdf; Supplier: LCSC; Convert to PCB: yes
footprint SOT-23-3_L2.9-W1.3-P1.90-LS2.4-BR
3D model SOT-23-3P_L2.9-W1.3-H1.0-LS2.4-P0.95
pins: 1 B, 2 E, 3 C

## STM32F407ZET6
designator U?
CPU内核:ARM Cortex-M4;CPU最大主频:168MHz;工作电压范围:1.8V~3.6V;程序存储容量:512KB;程序存储器类型:FLASH;RAM总容量:192KB;GPIO端口数量:114;; Manufacturer: ST(意法半导体); Add into BOM: yes; CPU Maximum Speed: 168MHz; Program Storage Size: 512KB; Program Memory Type: FLASH; RAM Size: 192KB; GPIO Ports Number: 114; ADC (Bit): 12bit; Universal Serial Bus: 有; tags: STM32; Name: STM32F407ZET6; Symbol: STM32F407ZET6; Device: STM32F407ZET6; LCSC Part Name: STM32F407ZET6; Supplier Part: C36869; Manufacturer Part: STM32F407ZET6; Supplier Footprint: LQFP-144(20x20); JLCPCB Part Class: 扩展库; Datasheet: https://atta.szlcsc.com/upload/public/pdf/source/20160816/1471342957598.pdf; Supplier: LCSC; Convert to PCB: yes; CPU Core: ARM Cortex-M4; Operating Voltage Range: 1.8V~3.6V; EEPROM: -; DAC (Bit): 12bit; PWM (Bit): -; Internal Comparator: -; communication protocol: -; Watchdog: 有; Real-Time Clock: -; Infrared Data Association: 有; Low-Voltage Detect: 有; CCP Capture/Compare: -; LCD Module: 有; Secure Digital Input and Output: -; Direct Memory Access: 有; Internal Oscillator: 有; Operating Temperature Range: -40℃~+85℃; image: http://image.lceda.cn/szlcsc/C36869.jpg
footprint LQFP-144_L20.0-W20.0-P0.50-LS22.0-BL
3D model LQFP-144_L20.0-W20.0-P0.50-LS22.0-BL
part A pins: 7 PC13, 8 PC14-OSC32_IN(PC14), 9 PC15-OSC32_OUT(PC15), 26 PC0, 27 PC1, 28 PC2, 29 PC3, 34 PA0-WKUP(PA0), 35 PA1, 36 PA2, 37 PA3, 40 PA4, 41 PA5, 42 PA6, 43 PA7, 44 PC4, 45 PC5, 46 PB0, 47 PB1, 48 PB2-BOOT1(PB2), 69 PB10, 70 PB11, 73 PB12, 74 PB13, 75 PB14, 76 PB15, 77 PD8, 78 PD9, 79 PD10, 80 PD11, 81 PD12, 82 PD13, 85 PD14, 86 PD15, 96 PC6, 97 PC7, 98 PC8, 99 PC9, 100 PA8, 101 PA9, 102 PA10, 103 PA11, 104 PA12, 105 PA13(JTMS-SWDIO), 109 PA14(JTCK-SWCLK), 110 PA15(JTDI), 111 PC10, 112 PC11, 113 PC12, 114 PD0, 115 PD1, 116 PD2, 117 PD3, 118 PD4, 119 PD5, 122 PD6, 123 PD7, 133 PB3(JTDOTRACESWO), 134 PB4(NJTRST), 135 PB5, 136 PB6, 137 PB7, 139 PB8, 140 PB9
part B pins: 1 PE2, 2 PE3, 3 PE4, 4 PE5, 5 PE6, 10 PF0, 11 PF1, 12 PF2, 13 PF3, 14 PF4, 15 PF5, 18 PF6, 19 PF7, 20 PF8, 21 PF9, 22 PF10, 23 PH0-OSC_IN(PH0), 24 PH1-OSC_OUT(PH1), 25 NRST, 49 PF11, 50 PF12, 53 PF13, 54 PF14, 55 PF15, 56 PG0, 57 PG1, 58 PE7, 59 PE8, 60 PE9, 63 PE10, 64 PE11, 65 PE12, 66 PE13, 67 PE14, 68 PE15, 71 VCAP_1, 87 PG2, 88 PG3, 89 PG4, 90 PG5, 91 PG6, 92 PG7, 93 PG8, 106 VCAP_2, 124 PG9, 125 PG10, 126 PG11, 127 PG12, 128 PG13, 129 PG14, 132 PG15, 138 BOOT0, 141 PE0, 142 PE1, 143 PDR_ON
part C pins: 6 VBAT, 16 VSS, 17 VDD, 30 VDD, 31 VSSA, 32 VREF+, 33 VDDA, 38 VSS, 39 VDD, 51 VSS, 52 VDD, 61 VSS, 62 VDD, 72 VDD, 83 VSS, 84 VDD, 94 VSS, 95 VDD, 107 VSS, 108 VDD, 120 VSS, 121 VDD, 130 VSS, 131 VDD, 144 VDD

## SWPA6045S680MT
designator L?, comment 68uH
类型:-;电感值:68uH;精度:±20%;额定电流:1A;饱和电流(Isat):1.2A;; Manufacturer: Sunlord(顺络); Symbol: SWPA6045S680MT; Add into BOM: yes; Tolerance: ±20%; Rated Current: 1A; Saturation Current (Isat): 1.2A; DC Resistance (DCR): 289mΩ; Name: 68uH; Device: SWPA6045S680MT; LCSC Part Name: 68uH ±20% 1.2A; Supplier Part: C53663; Manufacturer Part: SWPA6045S680MT; Supplier Footprint: SMD; JLCPCB Part Class: 扩展库; Datasheet: https://atta.szlcsc.com/upload/public/pdf/source/20210916/AC798BA7E846B7D0B6818F45CD84DB0B.pdf; Supplier: LCSC; Convert to PCB: yes; Type: -; Value: 68uH; Ratings: -
footprint IND-SMD_L6.0-W6.0_SWPA6045S
3D model IND-SMD_L6.0-W6.0-H4.5
pins: 1, 2

## SX3B12.288F2010F30
designator X?, comment 12.288MHz
频率:12.288MHz;频率公差:±10ppm;负载电容:20pF;; Manufacturer: SCTF(星通时频); Symbol: SX3B12.288F2010F30; Add into BOM: yes; Crystal Type: 贴片无源晶振; Frequency Tolerance: ±10ppm; Frequency Stability: ±30ppm; Load Capacitance: 20pF; Equivalent Series Resistance (ESR): 100Ω; Name: 12.288MHz; Device: SX3B12.288F2010F30; LCSC Part Name: 12.288MHz ±10ppm 20pF; Supplier Part: C2901655; Manufacturer Part: SX3B12.288F2010F30; Supplier Footprint: SMD3225-4P; JLCPCB Part Class: 扩展库; Datasheet: https://atta.szlcsc.com/upload/public/pdf/source/20211009/3804C1E26C475A85A55BFB80BFD4FE9A.pdf; Supplier: LCSC; Convert to PCB: yes; Value: 12.288MHz; Operating Temperature: -40℃~+85℃
footprint CRYSTAL-SMD_4P-L3.2-W2.5-BL
3D model OSC-SMD_4P-L3.2-W2.5-H1.0
pins: 1, 2 GND, 3, 4 GND

## TAXM8M2QLFCDT1T
designator X?, comment 8MHz
频率:8MHz;频率公差:±30ppm;负载电容:20pF;; Manufacturer: TAE(雅晶鑫); Symbol: SMD-5032_2P 8M 20pf 30ppm; Device: TAXM8M2QLFCDT1T; Add into BOM: yes; Crystal Type: 贴片无源晶振; Frequency Tolerance: ±30ppm; Frequency Stability: ±20ppm; Load Capacitance: 20pF; Equivalent Series Resistance (ESR): 80Ω; Name: 8MHz; LCSC Part Name: 8MHz ±30ppm 20pF; Supplier Part: C122522; Manufacturer Part: TAXM8M2QLFCDT1T; Supplier Footprint: SMD5032-2P; JLCPCB Part Class: 扩展库; Datasheet: https://atta.szlcsc.com/upload/public/pdf/source/20220113/59EE8A0E7B9F67FF1BF3C454890DE4E5.pdf; Supplier: LCSC; Convert to PCB: yes; Value: 8MHz; Operating Temperature: -40℃~+85℃
footprint OSC-SMD_L5.0-W3.2
3D model OSC-SMD_L5.0-W3.2-H1.4
pins: 1 OSC1, 2 OSC2

## TC0325B3300T5F
designator R?, comment 330Ω
阻值:330Ω;精度:±0.1%;功率:100mW;温度系数:±25ppm/℃;电阻类型:薄膜电阻;; Manufacturer: UNI-ROYAL(厚声); Symbol: TC0325B3300T5F; Add into BOM: yes; Tolerance: ±0.1%; Power(Watts): 100mW; Overload Voltage (Max): 75V; Name: 330Ω; Device: TC0325B3300T5F; LCSC Part Name: 330Ω ±0.1% 100mW 薄膜电阻; Supplier Part: C2989271; Manufacturer Part: TC0325B3300T5F; Supplier Footprint: 0603; JLCPCB Part Class: 扩展库; Datasheet: https://atta.szlcsc.com/upload/public/pdf/source/20220708/6ACD1707201702E70C0F417A19EB926E.pdf; Supplier: LCSC; Convert to PCB: yes; Value: 330Ω; Temperature Coefficient: ±25ppm/℃; Type: 薄膜电阻
footprint R0603
3D model R0603
pins: 1, 2

## TF-01A_C2889258
designator CARD?, comment TF-01A
卡类型:MicroSD卡(TF卡);连接器类型:卡座;卡连接方式:自弹式;本体最大高度:2mm;工作温度范围:-;; Manufacturer: Yuandi(元迪); Symbol: TF-01A_C2889258; Add into BOM: yes; Connector Type: 卡座; Card Connection Mode: 自弹式; Maximum Body Height: 2mm; Name: TF-01A; Device: TF-01A_C2889258; LCSC Part Name: TF卡座自弹式9P外焊卡座; Supplier Part: C2889258; Manufacturer Part: TF-01A; Supplier Footprint: SMD; JLCPCB Part Class: 扩展库; Datasheet: https://atta.szlcsc.com/upload/public/pdf/source/20210830/44259D2B93BF4B637A446EF1520C4989.pdf; Supplier: LCSC; Convert to PCB: yes; Card Type: MicroSD卡(TF卡); Operating Temperature Range: -
footprint TF-SMD_TF-02
3D model TF-SMD_TF-02
pins: 1 DAT2, 2 CD/DAT3, 3 CMD, 4 VDD, 5 CLK, 6 VSS, 7 DAT0, 8 DAT1, 9 CD, 10 GND, 11 GND, 12 GND, 13 GND

## TFX-04-32.768K
designator X?, comment -
频率:-;负载电容:-;; Manufacturer: RIVER(大河); Symbol: TFX-04-32.768K_C515348; Device: TFX-04-32.768K; Add into BOM: yes; Name: -; LCSC Part Name: 时钟晶体 32.768kHz 4PF 20PPM; Supplier Part: C515348; Manufacturer Part: TFX-04-32.768K; Supplier Footprint: SMD1610-2P; JLCPCB Part Class: 扩展库; Datasheet: https://atta.szlcsc.com/upload/public/pdf/source/20200917/C515346_EDFB4A3F7406CD145B2E2A90CB656616.pdf; Supplier: LCSC; Convert to PCB: yes; Crystal Type: -; Value: -; Load Capacitance: -; Operating Temperature: -
footprint OSC-SMD_2P-L1.6-W1.0
3D model OSC-SMD_2P-L1.6-W1.0-H0.5
pins: 1, 2

## VS1053B-L
designator U?
MP3芯片; Manufacturer: VLSI; Add into BOM: yes; Name: VS1053B-L; Symbol: VS1053B; Device: VS1053B-L; LCSC Part Name: VS1053B-L; Supplier Part: C9922; Manufacturer Part: VS1053B-L; Supplier Footprint: LQFP-48(7x7); JLCPCB Part Class: 扩展库; Datasheet: https://atta.szlcsc.com/upload/public/pdf/source/20121114/1457706558124.pdf; Supplier: LCSC; Convert to PCB: yes
footprint LQFP-48_L7.0-W7.0-P0.50-LS9.0-BL
3D model LQFP-48_L7.0-W7.0-H1.4-LS9.0-P0.50
pins: 1 MICPLINE1, 2 MICN, 3 XRESET, 4 DGND0, 5 CVDD0, 6 IOVDD0, 7 CVDD1, 8 DREQ, 9 GPIO2DCLK1, 10 GPIO3SDATA1, 11 GPIO6I2S_SCLK3, 12 GPIO7I2S_SDATA3, 13 XDCSBSYNC1, 14 IOVDD1, 15 VCO, 16 DGND1, 17 XTALO, 18 XTALI, 19 IOVDD2, 20 DGND2, 21 DGND3, 22 DGND4, 23 XCS, 24 CVDD2, 25 GPIOI2S_MCLK3, 26 RX, 27 TX, 28 SCLK, 29 SI, 30 SO, 31 CVDD3, 32 XTEST, 33 GPIO0, 34 GPIO1, 35 GND, 36 GPIO4I2S-LROUT3, 37 AGND0, 38 AVDD0, 39 RIGHT, 40 AGND1, 41 AGND2, 42 GBUF, 43 AVDD1, 44 RCAP, 45 AVDD2, 46 LEFT, 47 AGND3, 48 LINE2

## W25Q128JVSIQ
designator U??  (value not drawn)
Manufacturer: WINBOND(华邦); Symbol: W25Q128JVSIQTR; Add into BOM: yes; Memory Size: 128Mbit; Device: W25Q128JVSIQ; Supplier: LCSC; Manufacturer Part: W25Q128JVSIQ; Supplier Part: C97521; JLCPCB Part Class: Basic Part; LCSC Part Name: W25Q128JVSIQ 编带; Supplier Footprint: SOP-8-208mil; Datasheet: https://atta.szlcsc.com/upload/public/pdf/source/20170316/1489627409956.pdf; Convert to PCB: yes; Interface Type: -; Clock Frequency (fc): -; Supply Voltage: -; Supply Current (Read): -; Supply Current (Program): -; Supply Current (Erase): -; Standby supply current: -; Page Programming Time (Tpp): -; Block Erase Time (tBE): -; Data Retention - TDR (Year): -; Operating Temperature: -
footprint SOIC-8_L5.3-W5.3-P1.27-LS8.0-BL
pins: 1 CS#, 2 DO, 3 IO2, 4 GND, 5 DI, 6 CLK, 7 IO3, 8 VCC

## XKB8080-W
designator SW??  (value not drawn)
Manufacturer: XKB Connectivity(中国星坤); Add into BOM: yes; Self Lock / No Lock: 无锁; Actuator Style: 矩形按钮; Contact Current: 100mA; Voltage Rating (AC): 250V; Voltage Rating (DC): 30V; Insulation Resistance: 100MΩ; Actuator/Cap Color: 蓝色; With Lamp: 不带; Pin Style: PC引脚; Operating Force: 160gf; Mechanical Life: 10万次; Symbol: XKB8080-W; Device: XKB8080-W; Supplier: LCSC; Supplier Part: C318861; Manufacturer Part: XKB8080-W; JLCPCB Part Class: Extended Part; LCSC Part Name: 按键开关   8*8插件蓝白黑无锁开关; Supplier Footprint: 插件; Datasheet: https://atta.szlcsc.com/upload/public/pdf/source/20200227/C318861_0CCDF4510CAD1098054D1FAD25282ED5.pdf; Convert to PCB: yes; IP Rating: -; Mounting Style: 直插; Operating Temperature: -15℃~+55℃
footprint SW-TH_6P-L8.0-W8.0-P2.50
pins: 1, 2, 3, 4, 5, 6

## XL1509-5.0E1
designator U?
功能类型:降压型;输入电压:-;输出电流(最大值):-;; Manufacturer: XLSEMI(芯龙); Add into BOM: yes; Function: 降压型; Name: XL1509-5.0E1; Symbol: XL1509-5.0E1; Device: XL1509-5.0E1; LCSC Part Name: XL1509-5.0E1; Supplier Part: C61063; Manufacturer Part: XL1509-5.0E1; Supplier Footprint: SOP-8; JLCPCB Part Class: 基础库; Datasheet: https://atta.szlcsc.com/upload/public/pdf/source/20151126/1457707596805.pdf; Supplier: LCSC; Convert to PCB: yes; Synchronous Rectification: -; Number of Outputs: -; Topology: -; Input Voltage: -; Output Current (Max): -; Switching Frequency: -
footprint SOIC-8_L5.0-W4.0-P1.27-LS6.0-BL
3D model SOIC-8_L4.9-W3.9-H1.7-LS6.0-P1.27
pins: 1 VIN, 2 OUTPUT, 3 FB, 4 ON/OFF, 5 GND, 6 GND, 7 GND, 8 GND

## Y0794500R000F0W
designator U?, comment 500Ω
电阻类型:金属箔电阻;阻值:500Ω;精度:±1%;功率:12.5mW;温度系数:±3ppm/℃;; Manufacturer: VISHAY(威世); Symbol: Y0794500R000F0W; Add into BOM: yes; Tolerance: ±1%; Power(Watts): 12.5mW; Temperature Coefficient: ±3ppm/℃; Name: 500Ω; Device: Y0794500R000F0W; LCSC Part Name: 金属箔电阻 500Ω ±1% 12.5mW; Supplier Part: C4222953; Manufacturer Part: Y0794500R000F0W; Supplier Footprint: 0603; JLCPCB Part Class: 扩展库; Supplier: LCSC; Convert to PCB: yes; Type: 金属箔电阻; Value: 500Ω; Operating Temperature Range: -55℃~+220℃
footprint R0603
3D model R0603
pins: 1, 2

## ZX-XH2.54-2PZZ
designator CN?
参考系列:XH;间距:2.54mm;插针结构:1x2P;排数:1;每排PIN数:2;行距:-;公母:公型插针;安装方式:直插;额定电流:3A;触头材质:黄铜;触头镀层:锡;工作温度范围:-25℃~+85℃;焊接温度(最大值):260℃;; Manufacturer: Megastar(兆星); Add into BOM: yes; Reference Series: XH; Pitch: 2.54mm; Pins Structure: 1x2P; Number of PINs Per Row: 2; Gender: 公型插针; Current Rating (Max): 3A; Welding Temperature (Max): 260℃; Name: ZX-XH2.54-2PZZ; Symbol: ZX-XH2.54-2PZZ; Device: ZX-XH2.54-2PZZ; LCSC Part Name: 系列:XH 间距:2.54mm 1x2P 直插; Supplier Part: C7429632; Manufacturer Part: ZX-XH2.54-2PZZ; Supplier Footprint: 插件,P=2.54mm; JLCPCB Part Class: 扩展库; Datasheet: https://atta.szlcsc.com/upload/public/pdf/source/20230619/19BA6947230AA44A04D3EDD65E618FD0.pdf; Supplier: LCSC; Convert to PCB: yes; Number of Rows: 1; Row Spacing: -; Mounting Style: 直插; Contact Material: 黄铜; Contact Plating: 锡; Operating Temperature Range: -25℃~+85℃
footprint CONN-TH_2P-P2.50_HX25003-2A
3D model CONN-TH_2P-P2.50_HX25003-2A
pins: 1, 2

## ZX-XH2.54-4PZZ
designator U?
参考系列:XH;间距:2.54mm;插针结构:1x4P;排数:1;每排PIN数:4;行距:-;公母:公型插针;安装方式:直插;额定电流:3A;触头材质:黄铜;触头镀层:锡;工作温度范围:-25℃~+85℃;焊接温度(最大值):260℃;; Manufacturer: Megastar(兆星); Add into BOM: yes; Reference Series: XH; Pitch: 2.54mm; Pins Structure: 1x4P; Number of PINs Per Row: 4; Gender: 公型插针; Current Rating (Max): 3A; Welding Temperature (Max): 260℃; Name: ZX-XH2.54-4PZZ; Symbol: ZX-XH2.54-4PZZ; Device: ZX-XH2.54-4PZZ; LCSC Part Name: 系列:XH 间距:2.54mm 1x4P 直插; Supplier Part: C7429634; Manufacturer Part: ZX-XH2.54-4PZZ; Supplier Footprint: 插件,P=2.54mm; JLCPCB Part Class: 扩展库; Datasheet: https://atta.szlcsc.com/upload/public/pdf/source/20230619/B529A2163E0159A644AB3383D208FB03.pdf; Supplier: LCSC; Convert to PCB: yes; Number of Rows: 1; Row Spacing: -; Mounting Style: 直插; Contact Material: 黄铜; Contact Plating: 锡; Operating Temperature Range: -25℃~+85℃
footprint CONN-TH_4P-P2.50_4PIN
3D model CONN-TH_4P-P2.50_4PIN
pins: 1, 2, 3, 4